# EAGLE library part ALPS_SKQ_MDS (library ALPS_SKQ_MDS)
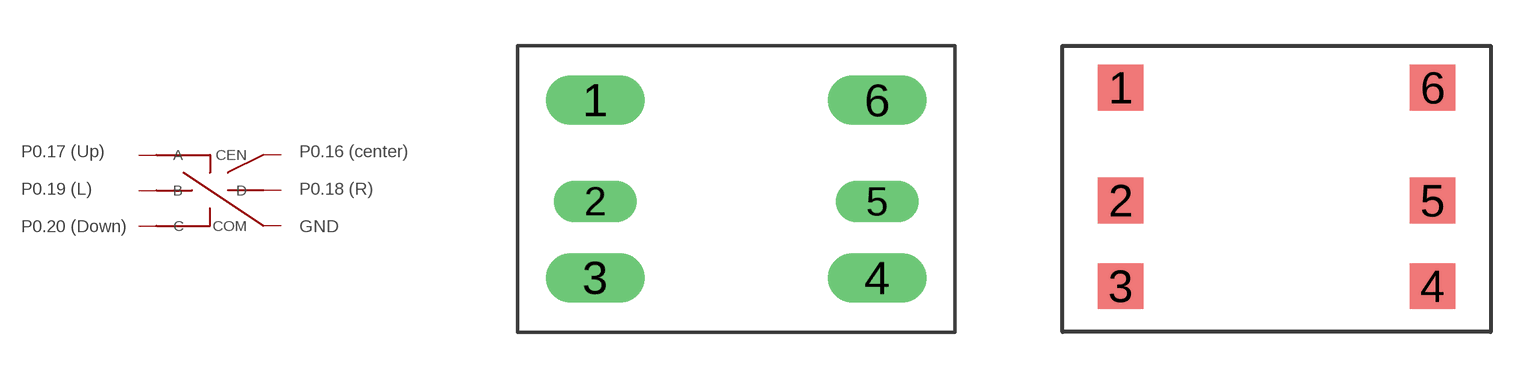
[diagram p0: symbol with the pads of ALPS_SKQ_MDS_PTH; footprints ALPS_SKQ_MDS_PTH, APLS_SKQ_MDS_SMD]

Designator prefix SW

## ALPS_SKQ_MDSPTH  [ALPS_SKQ_MDS_PTH]
1  A
2  B
3  C
4  COM
5  D
6  CEN

## ALPS_SKQ_MDSSMD  [APLS_SKQ_MDS_SMD]
Pads as for ALPS_SKQ_MDS_PTH

## Footprint ALPS_SKQ_MDS_PTH (pad centres in mm)
drill 1.2 long: 1 -5.15,2.54; 3 -5.15,-3.96; 4 5.15,-3.96; 6 5.15,2.54
drill 1 long: 2 -5.15,-1.16; 5 5.15,-1.16

## Footprint APLS_SKQ_MDS_SMD (pad centres in mm)
smd 1.5 x 1.5: 1 -5.1,3.44; 2 -5.1,-0.26; 3 -5.1,-3.06; 4 5.1,-3.06; 5 5.1,-0.26; 6 5.1,3.44